# Altium schematic symbol library SEMATIK_LIB.SchLib: 632 symbols (part 9 of 21)
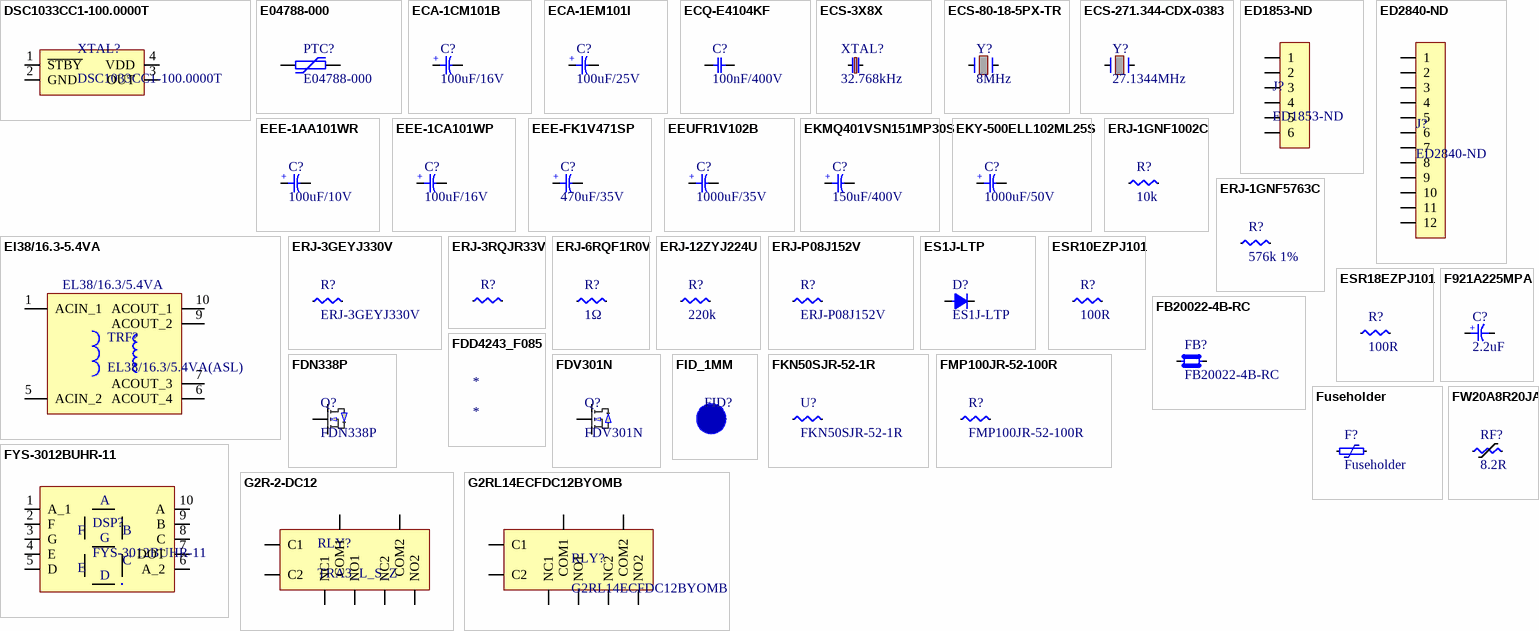
[diagram p24: symbols DSC1033CC1-100.0000T to G2RL14ECFDC12BYOMB]

## ERJ-1GNF5763C
designator R?, comment 576k 1%
RES SMD 576K OHM 1% 1/20W 0201; Manufacturer: Panasonic; Manufacturer Part Number: ERJ-1GNF5763C; Resistance: 576kR; Power Rating: 50mW; Voltage Rating: 25V; Temperature Coefficient: 200ppm/°C; Supplier 1: Digi-Key; Stock 1: 42170; Pricing 1: 1 = 0,10000, 10 = 0,05100, 100 = 0,02080, 1000 = 0,00933, 2500 = 0,00810, 5000 = 0,00669 (USD); RoHS: Yes; Mount: Surface Mount; Case/Package: 0201; Case Code (Metric): 0603; Case Code (Imperial): 0201; Contact Plating: Tin,Matte; Min Operating Temperature: -55°C; Max Operating Temperature: 125°C; Package Quantity: 15000; Tolerance: 1%; Packaging: Tape and Reel; Composition: Thick Film; Number of Terminations: 2; Termination: SMD/SMT; Max Power Dissipation: 50mW; Length: 0.024inch; Height: 0.01inch; Width: 0.012inch; Radiation Hardening: No; ComponentLink1URL: http://www.onlinecomponents.com/datasheet/erj-1gnf5763c.aspx?p=44466748&src-supplier=Onlinecomponents.com; ComponentLink1Description: http://www.onlinecomponents.com/datasheet/erj-1gnf5763c.aspx?p=44466748&src-supplier=Onlinecomponents.com; ComponentLink2URL: http://www.mouser.com/ds/2/315/AOA0000CE2-37512.pdf?src-supplier=Mouser; ComponentLink2Description: http://www.mouser.com/ds/2/315/AOA0000CE2-37512.pdf?src-supplier=Mouser; ComponentLink3URL: https://industrial.panasonic.com/cdbs/www-data/pdf/RDM0000/DMM0000COL11.pdf?src-supplier=Digi-Key; ComponentLink3Description: https://industrial.panasonic.com/cdbs/www-data/pdf/RDM0000/DMM0000COL11.pdf?src-supplier=Digi-Key; ComponentLink4URL: http://industrial.panasonic.com/www-cgi/jvcr13pz.cgi?E+PZ+3+AOA0002+ERJ1GNF5763C+7+WW?src-supplier=Digi-Key; ComponentLink4Description: http://industrial.panasonic.com/www-cgi/jvcr13pz.cgi?E+PZ+3+AOA0002+ERJ1GNF5763C+7+WW?src-supplier=Digi-Key; Supplier Part Number 1: P123087CT-ND
footprint R_0201_NOSILK
pins: 1, 2

## ERJ-3GEYJ330V
designator R?
RES SMD 33 OHM 5% 1/10W 0603; Manufacturer: Panasonic Electronic Components; Power (Watts): 0.1W, 1/10W; Temperature Coefficient: ±200ppm/°C; Resistance: 100R; Max Power Dissipation: 333mW; Max Current Rating: 40A; Hold Current: 300mA; Trip Current: 600mA; Time to Trip: 0.1s; Supplier 1: Digi-Key; Manufacturer Part Number: ERJ-3GEYJ330V; RoHS: RoHS Compliant; Category: Resistors; Stock 1: 1731668; Pricing 1: 1=0.1, 10=0.044, 100=0.0182, 1000=0.00849, 2500=0.00744 (USD); Packaging: Cut Tape (CT); Part Status: Active; Tolerance: ±5%; Composition: Thick Film; Features: Automotive AEC-Q200; Operating Temperature: -55°C ~ 155°C; Package / Case: 0603 (1608 Metric); Supplier Device Package: 0603; Size / Dimension: 0.063" L x 0.031" W (1.60mm x 0.80mm); Height - Seated (Max): 0.022" (0.55mm); Failure Rate: -; ComponentLink1URL: http://industrial.panasonic.com/www-cgi/jvcr13pz.cgi?E+PZ+3+AOA0001+ERJ3GEYJ330V+7+WW; ComponentLink1Description: http://industrial.panasonic.com/www-cgi/jvcr13pz.cgi?E+PZ+3+AOA0001+ERJ3GEYJ330V+7+WW; Supplier Part Number 1: P33GCT-ND; Supplier 2: Digi-Key; Stock 2: 23625; Pricing 2: 1=0.17, 10=0.14, 100=0.0546, 1000=0.02287, 2500=0.02096 (USD); Case/Package: 1206; Min Operating Temperature: -55°C; Max Operating Temperature: 155°C; Package Quantity: 5000; Number of Terminations: 2; Length: 0.126inch; Height: 0.026inch; Width: 0.063inch; ComponentLink2URL: http://www.rohm.com/web/global/datasheet/ESR01MZPF/esr-e?src-supplier=Digi-Key; ComponentLink2Description: http://www.rohm.com/web/global/datasheet/ESR01MZPF/esr-e?src-supplier=Digi-Key; Supplier 3: Digi-Key; Stock 3: 56444; Pricing 3: 1=0.14, 5=0.134, 10=0.129, 50=0.1148, 100=0.1069, 250=0.09504, 500=0.0792, 1000=0.07524 (USD); Case Code (Metric): 4532; Case Code (Imperial): 1812; Lead Free: Lead Free; ComponentLink3URL: https://www.belfuse.com/resources/CircuitProtection/datasheets/0ZCG%20Nov2016.pdf?src-supplier=Digi-Key; ComponentLink3Description: https://www.belfuse.com/resources/CircuitProtection/datasheets/0ZCG%20Nov2016.pdf?src-supplier=Digi-Key; Supplier Part Number 3: 507-1758-1-ND
footprint R_0603
pins: 1, 2

## ERJ-3RQJR33V
designator R?, comment 0R33  (value not drawn)
RES SMD 0.33 OHM 5% 1/10W 0603; Manufacturer: Panasonic; Manufacturer Part Number: ERJ-3RQJR33V; Resistance: 330mR; Power Rating: 100mW; Temperature Coefficient: 300ppm/°C; Supplier 1: Mouser; Stock 1: 49637; Pricing 1: 1=0.27, 10=0.103, 50=0.103, 100=0.058, 1000=0.029, 10000=0.017 (USD); Mount: Surface Mount; Case/Package: 0603; Case Code (Metric): 1608; Case Code (Imperial): 0603; Contact Plating: Tin; Min Operating Temperature: -55°C; Max Operating Temperature: 125°C; Tolerance: 5%; Packaging: Tape and Reel; Package Quantity: 1; Composition: Thick Film; Number of Terminations: 2; Termination: SMD/SMT; Max Power Dissipation: 100mW; Features: Automotive AEC-Q200; Military Standard: Not; Length: 1.6mm; Height: 0.022inch; Width: 0.031inch; Depth: 0.8mm; Radiation Hardening: No; Lead Free: Lead Free; ComponentLink1URL: http://industrial.panasonic.com/www-data/pdf/AOA0000/AOA0000CE3.pdf?src-supplier=Avnet; ComponentLink1Description: http://industrial.panasonic.com/www-data/pdf/AOA0000/AOA0000CE3.pdf?src-supplier=Avnet; ComponentLink2URL: http://industrial.panasonic.com/www-data/pdf/AOA0000/AOA0000CE3.pdf?src-supplier=Avnet+Europe; ComponentLink2Description: http://industrial.panasonic.com/www-data/pdf/AOA0000/AOA0000CE3.pdf?src-supplier=Avnet+Europe; ComponentLink3URL: http://www.mouser.com/ds/2/315/AOA0000CE3-72189.pdf?src-supplier=Mouser; ComponentLink3Description: http://www.mouser.com/ds/2/315/AOA0000CE3-72189.pdf?src-supplier=Mouser; Supplier Part Number 1: 667-ERJ-3RQJR33V
footprint R_0603
pins: 1, 2

## ERJ-6RQF1R0V
designator R?, comment 1Ω
RES SMD 1 OHM 1% 1/8W 0805; Manufacturer: Panasonic; Manufacturer Part Number: ERJ-6RQF1R0V; Resistance: 1R; Power Rating: 125mW; Temperature Coefficient: 200ppm/°C; Supplier 1: Digi-Key; RoHS: Yes; Category: Chip SMD Resistors; Stock 1: 100604; Pricing 1: 1=0,35000, 10=0,29900, 25=0,21760, 50=0,15780, 100=0,11690, 250=0,08976, 500=0,07070, 1000=0,04895 (USD); Mount: Surface Mount; Case/Package: 0805; Number of Pins: 2; Case Code (Imperial): 0805; Case Code (Metric): 2012; Contact Plating: Tin; Size Code: 0805; Min Operating Temperature: -55°C; Max Operating Temperature: 125°C; Packaging: Tape and Reel; Package Quantity: 5000; Series: ERJ; Tolerance: 1%; Termination: SMD/SMT; Resistor Type: Thick Film; Number of Terminations: 2; Max Power Dissipation: 125mW; Technology: THICK FILM; Resistance Tolerance: 1%; Construction: Rectangular; Length: 2mm; Width: 1.2mm; Height: 0.6mm; Depth: 1.25mm; Radiation Hardening: No; Lead Free: Lead Free; RoHS Compliant: Yes; REACH SVHC: No SVHC; Military Standard: Not; ComponentLink1URL: https://datasheet.ciiva.com/36525/1381829-36525978.pdf?src-supplier=Jameco; ComponentLink1Description: https://datasheet.ciiva.com/36525/1381829-36525978.pdf?src-supplier=Jameco; ComponentLink2URL: https://datasheet.ciiva.com/11818/0900766b80eefa12-11818468.pdf?src-supplier=RSComponents; ComponentLink2Description: https://datasheet.ciiva.com/11818/0900766b80eefa12-11818468.pdf?src-supplier=RSComponents; ComponentLink3URL: https://datasheet.ciiva.com/46446/391509-46446341.pdf?src-supplier=Element14; ComponentLink3Description: https://datasheet.ciiva.com/46446/391509-46446341.pdf?src-supplier=Element14; ComponentLink4URL: https://datasheet.ciiva.com/28691/391509-28691990.pdf?src-supplier=Element14; ComponentLink4Description: https://datasheet.ciiva.com/28691/391509-28691990.pdf?src-supplier=Element14; ComponentLink5URL: https://datasheet.ciiva.com/16783/70068852-16783991.pdf?src-supplier=Allied+Electronics; ComponentLink5Description: https://datasheet.ciiva.com/16783/70068852-16783991.pdf?src-supplier=Allied+Electronics; ComponentLink6URL: https://datasheet.ciiva.com/9198/aoa0000ce3-9198856.pdf?src-supplier=Avnet; ComponentLink6Description: https://datasheet.ciiva.com/9198/aoa0000ce3-9198856.pdf?src-supplier=Avnet; ComponentLink7URL: https://datasheet.ciiva.com/16507/aoa0000ce3-16507437.pdf?src-supplier=Future+Electronics; ComponentLink7Description: https://datasheet.ciiva.com/16507/aoa0000ce3-16507437.pdf?src-supplier=Future+Electronics; Supplier Part Number 1: P1.0DCT-ND
footprint R_0805
pins: 1, 2

## ERJ-12ZYJ224U
designator R?, comment 220k
RES SMD 220K OHM %5 3/4W 2010 Thick Film; Manufacturer: Panasonic; Manufacturer Part Number: ERJ-12ZYJ224U; Resistance: 220kR; Power Rating: 750mW; Tolerance: 5%; Voltage Rating: 200V; Temperature Coefficient: 200ppm/°C; Supplier 1: Digi-Key; Stock 1: 26234; Pricing 1: 1=0.3, 10=0.252, 100=0.0983, 1000=0.04117, 2500=0.03774 (USD); Mount: Surface Mount; Case/Package: 2010; Case Code (Metric): 5025; Case Code (Imperial): 2010; Contact Plating: Tin; Min Operating Temperature: -55°C; Max Operating Temperature: 155°C; Packaging: Tape and Reel; Package Quantity: 1; Composition: Thick Film; Number of Terminations: 2; Termination: SMD/SMT; Military Standard: Not; Max Power Dissipation: 750mW; Voltage Rating (DC): 200V; Features: Automotive AEC-Q200; Length: 0.197inch; Height: 0.028inch; Width: 0.098inch; Depth: 2.5mm; REACH SVHC: No SVHC; Lead Free: Lead Free; ComponentLink1URL: http://www.farnell.com/datasheets/1678796.pdf?src-supplier=Element14; ComponentLink1Description: http://www.farnell.com/datasheets/1678796.pdf?src-supplier=Element14; ComponentLink2URL: http://industrial.panasonic.com/www-data/pdf/AOA0000/AOA0000CE1.pdf?src-supplier=Avnet; ComponentLink2Description: http://industrial.panasonic.com/www-data/pdf/AOA0000/AOA0000CE1.pdf?src-supplier=Avnet; ComponentLink3URL: http://www.mouser.com/ds/2/315/AOA0000CE1-37422.pdf?src-supplier=Mouser; ComponentLink3Description: http://www.mouser.com/ds/2/315/AOA0000CE1-37422.pdf?src-supplier=Mouser; Supplier Part Number 1: P220KWDKR-ND; RoHS: No
footprint R_2010
pins: 1, 2

## ERJ-P08J152V
designator R?
RES SMD 1.5K Ohm 5% 2/3W 1206; Manufacturer: Panasonic; Resistance: 1.5kR; Temperature Coefficient: 200ppm/°C; Power Rating: 660mW; Voltage Rating: 500V; Max Power Dissipation: 667mW; Voltage Rating (DC): 200V; Supplier 1: Digi-Key; Manufacturer Part Number: ERJ-P08J152V; Stock 1: 20000; Pricing 1: 1=0.17, 10=0.142, 100=0.0556, 1000=0.02327, 2500=0.02133 (USD); Mount: Surface Mount; Case/Package: 1206; Contact Plating: Tin; Case Code (Metric): 3216; Case Code (Imperial): 1206; Min Operating Temperature: -55°C; Max Operating Temperature: 155°C; Tolerance: 5%; Composition: Thick Film; Packaging: Tape and Reel; Package Quantity: 1; Number of Terminations: 2; Features: Automotive AEC-Q200; Length: 3.2mm; Height: 0.028inch; Width: 0.063inch; Radiation Hardening: No; Lead Free: Contains Lead; ComponentLink1URL: http://industrial.panasonic.com/www-data/pdf/AOA0000/AOA0000CE4.pdf?src-supplier=Avnet+Europe; ComponentLink1Description: http://industrial.panasonic.com/www-data/pdf/AOA0000/AOA0000CE4.pdf?src-supplier=Avnet+Europe; ComponentLink2URL: http://industrial.panasonic.com/www-data/pdf/AOA0000/AOA0000CE4.pdf?src-supplier=Avnet; ComponentLink2Description: http://industrial.panasonic.com/www-data/pdf/AOA0000/AOA0000CE4.pdf?src-supplier=Avnet; ComponentLink3URL: http://www.mouser.com/ds/2/315/AOA0000CE4-64075.pdf?src-supplier=Mouser; ComponentLink3Description: http://www.mouser.com/ds/2/315/AOA0000CE4-64075.pdf?src-supplier=Mouser; Supplier Part Number 1: P1.5KALDKR-ND
footprint R_1206
pins: 1, 2

## ES1J-LTP
designator D?
DIODE GEN PURP 600V 1A DO214AC; Manufacturer: MCC; Forward Voltage: 1.7V; Max Surge Current: 30A; Reverse Recovery Time: 35ns; Element Configuration: Single; Max Reverse Current: 80uA; Supplier 1: Digi-Key; Manufacturer Part Number: ES1J-LTP; RoHS: Yes; Category: Rectifier Diodes; Stock 1: 109029; Pricing 1: 1=0,45000, 10=0,33400, 100=0,18940, 500=0,12540, 1000=0,09614, 2000=0,08360 (USD); Mount: Surface Mount; Case/Package: SMA; Number of Pins: 2; Weight: 0.001199oz; Min Operating Temperature: -65°C; Max Operating Temperature: 175°C; Packaging: Tape and Reel; Package Quantity: 1; Reverse Voltage (DC): 600V; Average Rectified Current: 1A; Peak Non-Repetitive Surge Current: 30A; Forward Current: 1A; Recovery Time: 35ns; Max Reverse Voltage (DC): 600V; Series: -; Radiation Hardening: No; Lead Free: Lead Free; RoHS Compliant: Yes; ComponentLink1URL: https://datasheet.ciiva.com/917/es1a-les1j-ldo-214ac-917284.pdf?src-supplier=Digi-Key; ComponentLink1Description: https://datasheet.ciiva.com/917/es1a-les1j-ldo-214ac-917284.pdf?src-supplier=Digi-Key; ComponentLink2URL: https://datasheet.ciiva.com/917/es1a-les1j-ldo-214ac-917285.pdf?src-supplier=Digi-Key; ComponentLink2Description: https://datasheet.ciiva.com/917/es1a-les1j-ldo-214ac-917285.pdf?src-supplier=Digi-Key; ComponentLink3URL: https://datasheet.ciiva.com/917/es1a-les1j-ldo-214ac-917283.pdf?src-supplier=Digi-Key; ComponentLink3Description: https://datasheet.ciiva.com/917/es1a-les1j-ldo-214ac-917283.pdf?src-supplier=Digi-Key; Supplier Part Number 1: ES1J-LTPMSCT-ND
footprint DO214AC(SMA)
pins: A Anot, K Katot

## ESR10EZPJ101
designator R?, comment 100R
RES SMD 100 OHM 5% 0.4W 0805; Manufacturer: Rohm Semiconductor; Manufacturer Part Number: ESR10EZPJ101; Power (Watts): 0.4W, 2/5W; Temperature Coefficient: ±200ppm/°C; Supplier 1: Digi-Key; RoHS: RoHS Compliant; Category: Resistors; Stock 1: 235580; Pricing 1: 1=0.1, 10=0.087, 100=0.0333, 1000=0.01464, 2500=0.01264 (USD); Packaging: Cut Tape (CT); Part Status: Active; Tolerance: ±5%; Composition: Thick Film; Features: Automotive AEC-Q200, Pulse Withstanding; Operating Temperature: -55°C ~ 155°C; Package / Case: 0805 (2012 Metric); Supplier Device Package: 0805; Size / Dimension: 0.079" L x 0.049" W (2.00mm x 1.25mm); Height - Seated (Max): 0.026" (0.65mm); Failure Rate: -; ComponentLink1URL: https://www.rohm.com/datasheet/ESR01MZPF/esr-e; ComponentLink1Description: https://www.rohm.com/datasheet/ESR01MZPF/esr-e; Supplier Part Number 1: RHM100KCT-ND
footprint R_0805
pins: 1, 2

## ESR18EZPJ101
designator R?, comment 100R
RES SMD 100 OHM 5% 1/3W 1206; Manufacturer: Rohm; Manufacturer Part Number: ESR18EZPJ101; Temperature Coefficient: 200ppm/°C; Max Power Dissipation: 333mW; Supplier 1: Digi-Key; Stock 1: 23625; Pricing 1: 1=0.17, 10=0.14, 100=0.0546, 1000=0.02287, 2500=0.02096 (USD); Case/Package: 1206; Min Operating Temperature: -55°C; Max Operating Temperature: 155°C; Package Quantity: 5000; Resistance: 100R; Tolerance: 5%; Packaging: Tape and Reel; Composition: Thick Film; Number of Terminations: 2; Features: Automotive AEC-Q200; Length: 0.126inch; Height: 0.026inch; Width: 0.063inch; ComponentLink1URL: http://www.rohm.com/web/global/datasheet/ESR01MZPF/esr-e?src-supplier=Digi-Key; ComponentLink1Description: http://www.rohm.com/web/global/datasheet/ESR01MZPF/esr-e?src-supplier=Digi-Key; Supplier Part Number 1: RHM100ICT-ND
footprint R_1206
pins: 1, 2

## F921A225MPA
designator C?, comment 2.2uF
CAP TANT uF 2.2 10V 20% 0805; Manufacturer: AVX Corporation; Manufacturer Part Number: F921A225MPA; Manufacturer Size Code: P; Type: Molded; ESR (Equivalent Series Resistance): 12 Ohm; Notification: Current market demand for these product types have resulted in fluctuating and extending lead times. Lead times may differ.; Supplier 1: Digi-Key; RoHS: RoHS Compliant; Category: Capacitors; Stock 1: 33178; Pricing 1: 1=0.39, 10=0.274, 100=0.1641, 500=0.12308, 1000=0.10394 (USD); Packaging: Cut Tape (CT); Part Status: Active; Tolerance: ±20%; Operating Temperature: -55°C ~ 125°C; Lifetime @ Temp.: -; Mounting Type: Surface Mount; Package / Case: 0805 (2012 Metric); Size / Dimension: 0.079" L x 0.049" W (2.00mm x 1.25mm); Height - Seated (Max): 0.039" (1.00mm); Lead Spacing: -; Features: General Purpose; Failure Rate: -; ComponentLink1URL: http://datasheets.avx.com/f92.pdf; ComponentLink1Description: http://datasheets.avx.com/f92.pdf; Supplier Part Number 1: 478-8123-1-ND
footprint Cap_tantalum_0805
pins: 1, 2
text: +

## FB20022-4B-RC
designator FB?
Ferrite Beads Wide Band Choke 900Ohm 25% 100MHz; Manufacturer 1: Bourns JW Miller; Impedance: 900R; Max Current Rating: 5A; Number of Lines: 1; Lead/Base Style: Axial; Outside Diameter: 5.99mm; Inside Diameter: 610um; Supplier 1: Digi-Key; Manufacturer Part Number 1: FB20022-4B-RC; Description 1: Ferrite Beads Wide Band Choke 900Ohm 25% 100MHz; Stock 1: 23478; Pricing 1: 1=0.65, 10=0.537, 25=0.4624, 50=0.4162, 100=0.37, 250=0.333, 500=0.30526, 1000=0.259, 5000=0.2405 (USD); Mount: Through Hole; Case/Package: Radial; Number of Pins: 2; Package Quantity: 300; Tolerance: 25%; Packaging: Bulk; DC Resistance (DCR): 900R; Termination: Axial; Test Frequency: 100MHz; Diameter: 5.99mm; Length: 0.55inch; Height: 0.394inch; REACH SVHC: No SVHC; ComponentLink1URL: http://www.bourns.com/data/global/pdfs/fb2000_series.pdf?src-supplier=Avnet+Europe; ComponentLink1Description: http://www.bourns.com/data/global/pdfs/fb2000_series.pdf?src-supplier=Avnet+Europe; ComponentLink2URL: http://www.bourns.com/data/global/pdfs/fb2000_series.pdf?src-supplier=Avnet; ComponentLink2Description: http://www.bourns.com/data/global/pdfs/fb2000_series.pdf?src-supplier=Avnet; Supplier Part Number 1: FB20022-4B-RC-ND
footprint FERRITE_FB20022-4B-RC
pins: 1, 2

## FDD4243_F085
designator *
Trans MOSFET P-CH 40V 14A 3-Pin(2+Tab) DPAK T/R

## FDN338P
designator Q?
MOSFET P-CH 20V 1.6A 3-Pin SuperSOT T/R; Manufacturer: ON Semiconductor / Fairchild; Rise Time: 11ns; Rds On Max: 115mR; Input Capacitance: 451pF; Nominal Vgs: -800mV; Power Dissipation: 500mW; Turn-Off Delay Time: 16ns; Max Power Dissipation: 460mW; Number of Elements: 1; Turn-On Delay Time: 10ns; Element Configuration: Single; Drain to Source Breakdown Voltage: -20V; Gate to Source Voltage (Vgs): 8V; Current Rating: -1.6A; Supplier 1: Digi-Key; Manufacturer Part Number: FDN338P; Stock 1: 93000; Pricing 1: 3000 = 0,10651, 6000 = 0,10185, 15000 = 0,09021, 30000 = 0,08905, 75000 = 0,07566, 150000 = 0,07275 (USD); RoHS: Yes; Mount: Surface Mount; Case/Package: TO-236-3; Number of Pins: 3; Weight: 0.03g; Contact Plating: Tin,Matte; Min Operating Temperature: -55°C; Max Operating Temperature: 150°C; Packaging: Tape and Reel; Package Quantity: 3000; Continuous Drain Current (ID): 1.6A; Fall Time: 11ns; Drain to Source Resistance: 115mR; Drain to Source Voltage (Vdss): 20V; Threshold Voltage: -800mV; Voltage Rating (DC): -20V; On-State Resistance: 115mR; Radiation Hardening: No; REACH SVHC: No SVHC; Lead Free: Lead Free; ComponentLink1URL: https://datasheet.ciiva.com/4441/fdn338p-94284-4441936.pdf?src-supplier=Mouser; ComponentLink1Description: https://datasheet.ciiva.com/4441/fdn338p-94284-4441936.pdf?src-supplier=Mouser; ComponentLink2URL: https://datasheet.ciiva.com/17017/fdn338p-17017920.pdf?src-supplier=Future+Electronics; ComponentLink2Description: https://datasheet.ciiva.com/17017/fdn338p-17017920.pdf?src-supplier=Future+Electronics; ComponentLink3URL: https://datasheet.ciiva.com/15137/getdatasheetpartid-93930-15137779.pdf?src-supplier=Verical; ComponentLink3Description: https://datasheet.ciiva.com/15137/getdatasheetpartid-93930-15137779.pdf?src-supplier=Verical; ComponentLink4URL: https://datasheet.ciiva.com/22655/1802191-22655335.pdf?src-supplier=Element14; ComponentLink4Description: https://datasheet.ciiva.com/22655/1802191-22655335.pdf?src-supplier=Element14; ComponentLink5URL: https://datasheet.ciiva.com/14092/fdn338p-eng-tds-14092053.pdf?src-supplier=Distrelec; ComponentLink5Description: https://datasheet.ciiva.com/14092/fdn338p-eng-tds-14092053.pdf?src-supplier=Distrelec; ComponentLink6URL: https://datasheet.ciiva.com/7968/fdn338p-7968134.pdf?src-supplier=Element14; ComponentLink6Description: https://datasheet.ciiva.com/7968/fdn338p-7968134.pdf?src-supplier=Element14; ComponentLink7URL: https://datasheet.ciiva.com/8115/fdn338p-8115079.pdf?src-supplier=Avnet; ComponentLink7Description: https://datasheet.ciiva.com/8115/fdn338p-8115079.pdf?src-supplier=Avnet; ComponentLink8URL: https://datasheet.ciiva.com/26142/fdn338p-26142811.pdf?src-supplier=Avnet+Europe; ComponentLink8Description: https://datasheet.ciiva.com/26142/fdn338p-26142811.pdf?src-supplier=Avnet+Europe; ComponentLink9URL: https://datasheet.ciiva.com/6037/fdn338p-6037724.pdf?src-supplier=Farnell; ComponentLink9Description: https://datasheet.ciiva.com/6037/fdn338p-6037724.pdf?src-supplier=Farnell; Supplier Part Number 1: FDN338PTR-ND
footprint superSOT-3
pins: 1 D, 2 G, 3 S

## FDV301N
designator Q?
MOSFET N-CH 25V 0.5A 3-Pin SOT-23; Manufacturer 1: ON Semiconductor / Fairchild; Rise Time: 6ns; Nominal Vgs: 850mV; Rds On Max: 4R; Input Capacitance: 9.5pF; Number of Elements: 1; Max Power Dissipation: 350mW; Continuous Drain Current (ID): 220mA; Gate to Source Voltage (Vgs): 8V; Drain to Source Resistance: 5R; Turn-Off Delay Time: 3.5ns; Turn-On Delay Time: 3.2ns; Element Configuration: Single; Voltage: 50V; Supplier 1: Digi-Key; Manufacturer Part Number 1: FDV301N; Stock 1: 1521000; Pricing 1: 3000=0,04171, 6000=0,03608, 15000=0,02992, 30000=0,02939, 75000=0,02640, 150000=0,02288 (USD); RoHS: Yes; Mount: Surface Mount; Case/Package: SOT-23; Number of Pins: 3; Contact Plating: Tin,Matte; Min Operating Temperature: -55°C; Max Operating Temperature: 150°C; Packaging: Tape and Reel; Package Quantity: 1; Dual Supply Voltage: 25V; Drain to Source Breakdown Voltage: 25V; Fall Time: 6ns; Power Dissipation: 350mW; Drain to Source Voltage (Vdss): 25V; Termination: SMD/SMT; Voltage Rating (DC): 25V; Current Rating: 220mA; On-State Resistance: 4R; Length: 2.92mm; Height: 0.93mm; Width: 3.05mm; Radiation Hardening: No; REACH SVHC: No SVHC; Lead Free: Lead Free; ComponentLink1URL: https://datasheet.ciiva.com/4439/fdv301n-52768-4439154.pdf?src-supplier=Mouser; ComponentLink1Description: https://datasheet.ciiva.com/4439/fdv301n-52768-4439154.pdf?src-supplier=Mouser; ComponentLink2URL: https://datasheet.ciiva.com/931/fdv301n-931766.pdf?src-supplier=Digi-Key; ComponentLink2Description: https://datasheet.ciiva.com/931/fdv301n-931766.pdf?src-supplier=Digi-Key; ComponentLink3URL: https://datasheet.ciiva.com/931/fdv301n-931767.pdf?src-supplier=Digi-Key; ComponentLink3Description: https://datasheet.ciiva.com/931/fdv301n-931767.pdf?src-supplier=Digi-Key; ComponentLink4URL: https://datasheet.ciiva.com/22681/1719905-22681895.pdf?src-supplier=Element14; ComponentLink4Description: https://datasheet.ciiva.com/22681/1719905-22681895.pdf?src-supplier=Element14; ComponentLink5URL: https://datasheet.ciiva.com/22681/1719905-22681896.pdf?src-supplier=Element14; ComponentLink5Description: https://datasheet.ciiva.com/22681/1719905-22681896.pdf?src-supplier=Element14; Supplier Part Number 1: FDV301NTR-ND
footprint SOT-23
pins: 1 D, 2 G, 3 S

## FID_1MM
designator FID?  (value not drawn)  (no BOM)
Fiducial 40mil Diameter, 120mil Mask
footprint FID40x120

## FKN50SJR-52-1R
designator U?
RES 1 OHM 1/2W 5% AXIAL; Manufacturer 1: Yageo; Resistance: 1R; Max Power Dissipation: 500mW; Supplier 1: Digi-Key; Manufacturer Part Number 1: FKN50SJR-52-1R; Description 1: RES 1 OHM 1/2W 5% AXIAL; Stock 1: 7944; Pricing 1: 1=0.38, 10=0.319, 25=0.232, 50=0.168, 100=0.1246, 250=0.09564, 500=0.07534, 1000=0.05216 (USD); Case/Package: Axial; Min Operating Temperature: -40°C; Max Operating Temperature: 155°C; Package Quantity: 1; Tolerance: 5%; Packaging: Tape and Reel; Composition: Wirewound; Number of Terminations: 2; Length: 0.248inch; ComponentLink1URL: http://www.yageo.com/documents/recent/Yageo%20LR_FKN_2013.pdf?src-supplier=Digi-Key; ComponentLink1Description: http://www.yageo.com/documents/recent/Yageo%20LR_FKN_2013.pdf?src-supplier=Digi-Key; Supplier Part Number 1: 1.0DNCT-ND
footprint R_DIP_460mil
pins: 1, 2

## FMP100JR-52-100R
designator R?
RES Metal Film 100 OHM 1W 5% AXIAL; Manufacturer 1: Yageo; Description 1: RES 100 OHM 1W 5% AXIAL; Resistance: 100R; Supplier 1: Digi-Key; Manufacturer Part Number 1: FMP100JR-52-100R; Stock 1: 92005; Pricing 1: 1=0.23, 10=0.198, 25=0.144, 50=0.1044, 100=0.0774, 250=0.0594, 500=0.0468, 1000=0.03239 (USD); Case/Package: Axial; Min Operating Temperature: -55°C; Max Operating Temperature: 155°C; Package Quantity: 1; Tolerance: 5%; Packaging: Tape and Reel; Composition: Metal Film; Number of Terminations: 2; Max Power Dissipation: 1W; Length: 0.248inch; Lead Free: Lead Free; ComponentLink1URL: http://www.yageo.com/documents/recent/Yageo%20LR_FMP_2013.pdf?src-supplier=Digi-Key; ComponentLink1Description: http://www.yageo.com/documents/recent/Yageo%20LR_FMP_2013.pdf?src-supplier=Digi-Key; Supplier Part Number 1: 100WCT-ND
footprint RES_DIP_2.40x6.30
footprint RES_DIP_2.40x6.30+2512
pins: 1, 2

## Fuseholder
designator F?
FUSE HLDR CARTRIDGE 250V 5A PCB; Manufacturer: Keystone Electronics; Manufacturer Part Number: 4527; Fuseholder Type: Holder; For Use With/Related Products: 1/4" Dia; Fuse Size: 5mm x 20mm; Supplier 1: Digi-Key; RoHS: RoHS Compliant; Category: Circuit Protection; Stock 1: 22079; Pricing 1: 1=0.73, 10=0.55, 50=0.44, 100=0.4217, 250=0.38504, 1000=0.30785, 2500=0.27505, 5000=0.26586 (USD); Part Status: Active; Fuse Type: Cartridge; Voltage: 250V; Mounting Type: PCB; Orientation: Horizontal; Termination Style: PC Pin; Contact Material: Brass; Contact Finish: Tin; ComponentLink1URL: http://www.keyelco.com/product-pdf.cfm?p=324; ComponentLink1Description: http://www.keyelco.com/product-pdf.cfm?p=324; Supplier Part Number 1: 36-4527-ND
footprint SIGORTAYUVASI
pins: 1, 2

## FW20A8R20JA
designator RF?, comment 8.2R
RES FUSIBLE 8.2 OHM 2W 5% AXIAL; Manufacturer: Bourns; Manufacturer Part Number: FW20A8R20JA; Temperature Coefficient: 200ppm/°C; Supplier 1: Digi-Key; Stock 1: 374; Pricing 1: 1 = 0,64000, 10 = 0,46000, 25 = 0,35880, 50 = 0,30360, 100 = 0,23920, 250 = 0,20240, 500 = 0,16560 (USD); RoHS: Yes; Case/Package: Axial; Min Operating Temperature: -55°C; Max Operating Temperature: 155°C; Package Quantity: 1000; Packaging: Tape and Reel; Resistance: 8.2R; Tolerance: 5%; Power Rating: 2W; Resistor Type: Wirewound; Number of Terminations: 2; Termination: Axial; Max Power Dissipation: 2W; Length: 0.472inch; ComponentLink1URL: https://datasheet.ciiva.com/12835/fw-12835070.pdf?src-supplier=Mouser; ComponentLink1Description: https://datasheet.ciiva.com/12835/fw-12835070.pdf?src-supplier=Mouser; Supplier Part Number 1: 118-FW20A8R20JACT-ND
footprint R_DIP_(6x12)_PIN_0.65
pins: 1, 2

## FYS-3012BUHR-11
designator DSP?
LED 7SEG .30" SGL 565NM GRN CA; Manufacturer: Lumex Opto/Components Inc.; Manufacturer Part Number: LDS-C352RI; Number of Characters: 1; Digit/Alpha Size: 0.30" (7.62mm); Display Type: 7-Segment; Common Pin: Common Cathode; Voltage - Forward (Vf) (Typ): 2.2V; Current - Test: 10mA; Millicandela Rating: 2.5mcd; Power Dissipation (Max): 105mW; Supplier 1: Digi-Key; RoHS: RoHS Compliant; Category: Optoelectronics; Stock 1: 0; Pricing 1: 1=1.84, 2520=0.6825, 5000=0.65625 (USD); Packaging: Bulk; Part Status: Active; Size / Dimension: 0.500" H x 0.299" W x 0.240" D (12.70mm x 7.60mm x 6.10mm); Color: Green; Wavelength - Peak: 565nm; Package / Case: 10-DIP (0.200", 5.08mm); ComponentLink1URL: https://www.lumex.com/content/files/ProductAttachment/LDS-C352RI.pdf; ComponentLink1Description: https://www.lumex.com/content/files/ProductAttachment/LDS-C352RI.pdf; Supplier Part Number 1: LDS-C352RI-ND
footprint 7_SEGMENT_300Mil
pins: 1 A_1, 2 F, 3 G, 4 E, 5 D, 6 A_2, 7 DOT, 8 C, 9 B, 10 A

## G2R-2-DC12
designator RLY?, comment TRA3_L_S_Z
RELAY GEN PURPOSE DPDT 5A 12V; Manufacturer: Omron; Manufacturer Part Number: G2R-2-DC12; Voltage Rating (AC): 380V; Voltage Rating (DC): 125V; Power Consumption: 530mW; Coil Current: 43.6mA; Operate Time: 15ms; Release Time: 5ms; Coil Resistance: 275R; Relay Type: General Purpose; Coil Type: Non-Latching; Approvals: CE,CSA,UL,VDE; Supplier 1: Digi-Key; Stock 1: 9538; Pricing 1: 1=5, 10=4.689, 25=4.168, 50=3.9596, 100=3.7512, 300=3.3344, 500=3.126, 1000=2.9176 (USD); Mount: PCB,Through Hole; Number of Pins: 8; Weight: 17g; Contact Material: Cadmium,Silver; Min Operating Temperature: -40°C; Max Operating Temperature: 70°C; Contact Current Rating: 5A; Max Current Rating: 5A; Type: Electromechanical; Current Rating: 5A; Package Quantity: 100; Packaging: Tray; Power Rating: 530mW; Max Voltage Rating (AC): 380V; Max Voltage Rating (DC): 125V; Throw Configuration: DPDT; Termination: PC Pin; Coil Power: 530mW; Coil Voltage (DC): 12V; Length: 29mm; Height: 25.5mm; Width: 13mm; Depth: 13mm; Radiation Hardening: No; Lead Free: Lead Free; ComponentLink1URL: http://www.alliedelec.com/images/products/datasheets/bm/OMRON_ELECTRONICS_LLC/70175386.pdf?src-supplier=Allied+Electronics; ComponentLink1Description: http://www.alliedelec.com/images/products/datasheets/bm/OMRON_ELECTRONICS_LLC/70175386.pdf?src-supplier=Allied+Electronics; ComponentLink2URL: https://omronfs.omron.com/en_US/ecb/products/pdf/en-g2r.pdf?src-supplier=Digi-Key; ComponentLink2Description: https://omronfs.omron.com/en_US/ecb/products/pdf/en-g2r.pdf?src-supplier=Digi-Key; ComponentLink3URL: http://www.mouser.com/ds/2/307/en-g2r-15525.pdf?src-supplier=Mouser; ComponentLink3Description: http://www.mouser.com/ds/2/307/en-g2r-15525.pdf?src-supplier=Mouser; ComponentLink4URL: http://www.omron.com/ecb/products/pdf/en-g2r.pdf?src-supplier=Element14; ComponentLink4Description: http://www.omron.com/ecb/products/pdf/en-g2r.pdf?src-supplier=Element14; ComponentLink5URL: http://www.omron.com/ecb/products/pdf/en-g2r.pdf?src-supplier=Farnell; ComponentLink5Description: http://www.omron.com/ecb/products/pdf/en-g2r.pdf?src-supplier=Farnell; ComponentLink6URL: http://datasheet.iiic.cc/omron/G2R-2-DC12.pdf?src-supplier=IIIC; ComponentLink6Description: http://datasheet.iiic.cc/omron/G2R-2-DC12.pdf?src-supplier=IIIC; Supplier Part Number 1: Z2869-ND
footprint Relay_TRA3-l-12VDC-S-2Z
pins: C1, C2, COM1, COM2, NC1, NC2, NO1, NO2

## G2RL14ECFDC12BYOMB
designator RLY?
Relay Gen Purp SPDT 16A 12DC; Manufacturer 1: Omron; Description 1: Relay;  E-Mech;  Gen Purp;  SPDT;  Cur-Rtg 16A;  Ctrl-V 12DC;  Vol-Rtg 250/24AC/DC;  PCB Mnt; Coil Resistance: 360R; Coil Power: 400mW; Coil Current: 33.3mA; Coil Voltage (DC): 12V; Max Voltage Rating (AC): 440V; Max Voltage Rating (DC): 300V; Approvals: UL,CSA,VDE; Supplier 1: Digi-Key; Manufacturer Part Number 1: G2RL14ECFDC12BYOMB; Stock 1: 8759; Pricing 1: 1=3.96, 10=3.71, 25=3.298, 50=3.133, 100=2.968, 300=2.63823, 500=2.47336 (USD); Mount: PCB,Through Hole; Number of Pins: 8; Contact Material: Silver,Cadmium; Min Operating Temperature: -40°C; Max Operating Temperature: 85°C; Packaging: Bulk; Termination: PCB; Throw Configuration: SPDT; Max Current Rating: 16A; Current Rating: 16A; Voltage Rating (AC): 440V; Length: 29mm; Height: 15.7mm; Depth: 12.7mm; Radiation Hardening: No; ComponentLink1URL: https://www.alliedelec.com/m/d/3e40f7f562dcf873f08e7c31784d5e27.pdf?src-supplier=Allied+Electronics; ComponentLink1Description: https://www.alliedelec.com/m/d/3e40f7f562dcf873f08e7c31784d5e27.pdf?src-supplier=Allied+Electronics; ComponentLink2URL: https://www.components.omron.com/components/web/pdflib.nsf/0/8F66C9A835A195FE85257201007DD572/$file/G2RL_0911.pdf?src-supplier=Avnet; ComponentLink2Description: https://www.components.omron.com/components/web/pdflib.nsf/0/8F66C9A835A195FE85257201007DD572/$file/G2RL_0911.pdf?src-supplier=Avnet; Supplier Part Number 1: Z2841-ND
footprint Relay_TRA3-l-12VDC-S-2Z
pins: C1, C2, COM1, COM2, NC1, NC2, NO1, NO2

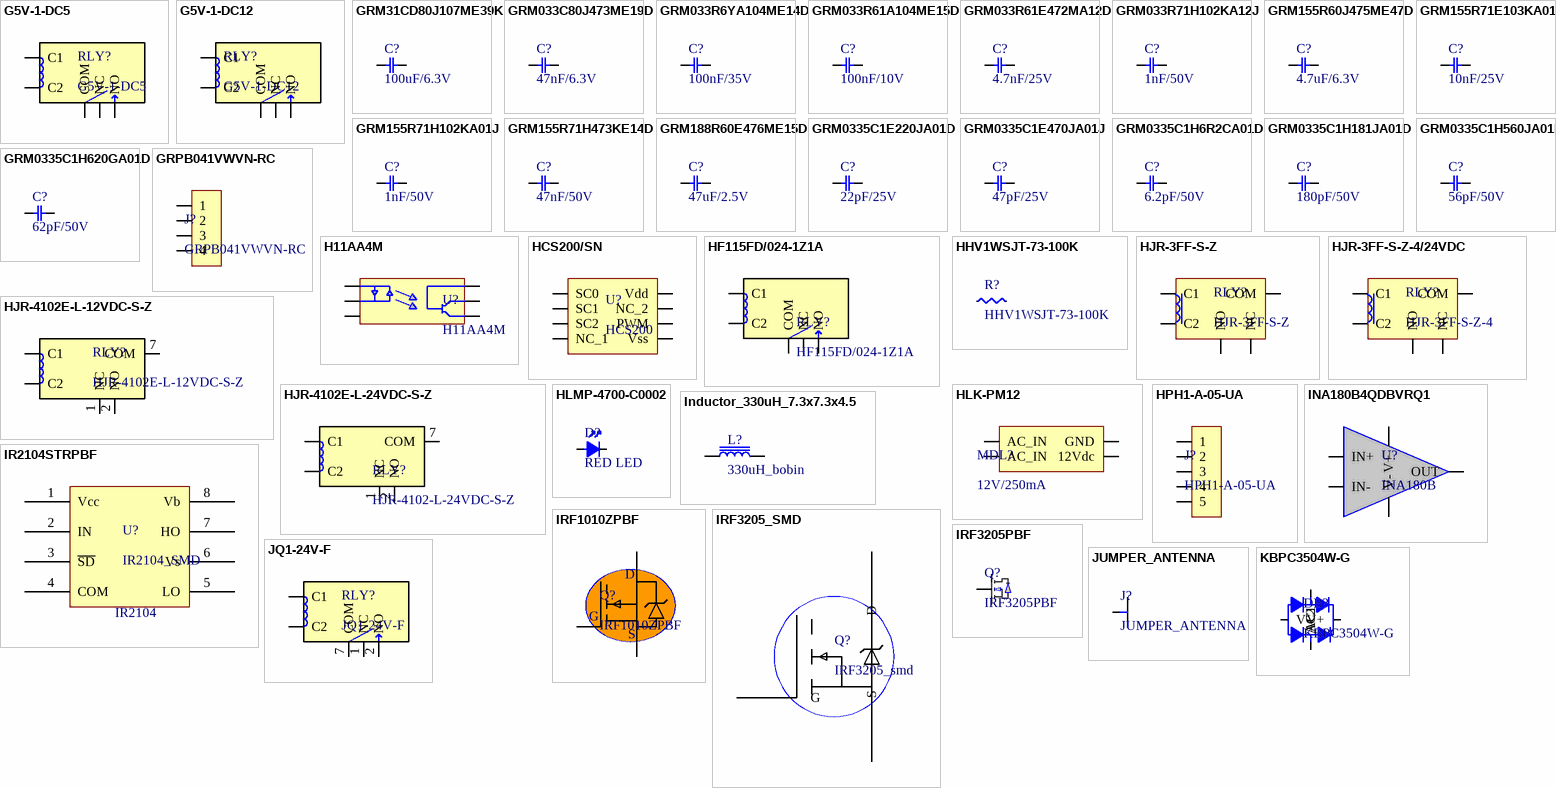
[diagram p7: symbols G5V-1-DC5 to KBPC3504W-G]

## G5V-1-DC5
designator RLY?
RELAY SIGNAL SPDT 1A 5VDC; Manufacturer 1: Omron; Description 1: OMRON ELECTRONIC COMPONENTS         G5V-1-DC5            Signal Relay, SPDT, 5 VDC, 1 A, Through Hole, Non Latching; Number of Poles: 1; Power Consumption: 150mW; Voltage Rating (AC): 125V; Voltage Rating (DC): 60V; Coil Current: 30mA; Operate Time: 5ms; Coil Resistance: 167R; Insulation Resistance: 1GR; Coil Type: Non-Latching; Relay Type: General Purpose; Coil Voltage (DC): 5V; Approvals: UL,CSA; Supplier 1: Digi-Key; Manufacturer Part Number 1: G5V-1-DC5; Stock 1: 67273; Pricing 1: 1=1.99, 10=1.867, 25=1.6596, 50=1.5764, 100=1.4935, 250=1.32752, 500=1.24456, 1000=1.16158, 5000=1.1201 (USD); Mount: Through Hole,PCB; Case/Package: DIP; Number of Pins: 6; Contact Material: Gold,Silver; Min Operating Temperature: -40°C; Max Operating Temperature: 70°C; Contact Current Rating: 1A; Type: Electromechanical; Packaging: Bulk; Package Quantity: 25; Current Rating: 1A; Max Voltage Rating (AC): 125V; Max Current Rating: 1A; Max Voltage Rating (DC): 60V; Throw Configuration: SPDT; Termination: PC Pin; Release Time: 5ms; Coil Power: 150mW; Length: 12.5mm; Height: 10mm; Width: 7.5mm; Depth: 7.5mm; Radiation Hardening: No; REACH SVHC: Unknown; Lead Free: Lead Free; ComponentLink1URL: http://www.farnell.com/datasheets/2005875.pdf?src-supplier=Element14; ComponentLink1Description: http://www.farnell.com/datasheets/2005875.pdf?src-supplier=Element14; ComponentLink2URL: https://www.verical.com/server-webapp/html/getDatasheet?partID=765626&src-supplier=Verical; ComponentLink2Description: https://www.verical.com/server-webapp/html/getDatasheet?partID=765626&src-supplier=Verical; ComponentLink3URL: http://www.jameco.com/Jameco/Products/ProdDS/187240.pdf?src-supplier=Jameco; ComponentLink3Description: http://www.jameco.com/Jameco/Products/ProdDS/187240.pdf?src-supplier=Jameco; ComponentLink4URL: https://www.alliedelec.com/m/d/1e60b26584bcbc6bc4b71250aa7aa308.pdf?src-supplier=Allied+Electronics; ComponentLink4Description: https://www.alliedelec.com/m/d/1e60b26584bcbc6bc4b71250aa7aa308.pdf?src-supplier=Allied+Electronics; ComponentLink5URL: http://www.onlinecomponents.com/productFiles/mf-OM/G5V-1.PDF?src-supplier=Onlinecomponents.com; ComponentLink5Description: http://www.onlinecomponents.com/productFiles/mf-OM/G5V-1.PDF?src-supplier=Onlinecomponents.com; ComponentLink6URL: https://omronfs.omron.com/en_US/ecb/products/pdf/en-g5v_1.pdf?src-supplier=Digi-Key; ComponentLink6Description: https://omronfs.omron.com/en_US/ecb/products/pdf/en-g5v_1.pdf?src-supplier=Digi-Key; Supplier Part Number 1: Z773-ND
footprint Relay_G5V-1
pins: C1, C2, COM1 COM, NC1 NC, NO1 NO

## G5V-1-DC12
designator RLY?
RELAY GEN PURPOSE SPDT 1A 125V; Manufacturer 1: Omron; Power Consumption: 150mW; Voltage Rating (DC): 60V; Coil Current: 12.5mA; Operate Time: 5ms; Coil Resistance: 960R; Relay Type: General Purpose; Coil Type: Non-Latching; Coil Voltage (DC): 12V; Approvals: UL,CSA; Supplier 1: Digi-Key; Manufacturer Part Number 1: G5V-1-DC12; Description 1: RELAY GEN PURPOSE SPDT 1A 125V; Stock 1: 16217; Pricing 1: 1=1.99, 10=1.867, 25=1.6596, 50=1.5764, 100=1.4935, 250=1.32752, 500=1.24456, 1000=1.16158, 5000=1.1201 (USD); Mount: Through Hole,PCB; Case/Package: DIP; Number of Pins: 6; Weight: 2g; Contact Material: Gold,Silver; Min Operating Temperature: -40°C; Max Operating Temperature: 70°C; Package Quantity: 500; Packaging: Rail/Tube; Contact Current Rating: 1A; Type: Electromechanical; Max Current Rating: 1A; Voltage Rating (AC): 125V; Max Voltage Rating (AC): 125V; Max Voltage Rating (DC): 60V; Current Rating: 1A; Throw Configuration: SPDT; Release Time: 5ms; Termination: PC Pin; Coil Power: 150mW; Power Rating: 150mW; Length: 12.5mm; Height: 10mm; Width: 7.5mm; Depth: 7.5mm; Radiation Hardening: No; REACH SVHC: No SVHC; Lead Free: Lead Free; ComponentLink1URL: https://omronfs.omron.com/en_US/ecb/products/pdf/en-g5v_1.pdf?src-supplier=Digi-Key; ComponentLink1Description: https://omronfs.omron.com/en_US/ecb/products/pdf/en-g5v_1.pdf?src-supplier=Digi-Key; ComponentLink2URL: http://www.jameco.com/Jameco/Products/ProdDS/184461.pdf?src-supplier=Jameco; ComponentLink2Description: http://www.jameco.com/Jameco/Products/ProdDS/184461.pdf?src-supplier=Jameco; ComponentLink3URL: https://www.verical.com/server-webapp/html/getDatasheet?partID=242758&src-supplier=Verical; ComponentLink3Description: https://www.verical.com/server-webapp/html/getDatasheet?partID=242758&src-supplier=Verical; ComponentLink4URL: http://www.onlinecomponents.com/productFiles/mf-OM/G5V-1.PDF?src-supplier=Onlinecomponents.com; ComponentLink4Description: http://www.onlinecomponents.com/productFiles/mf-OM/G5V-1.PDF?src-supplier=Onlinecomponents.com; ComponentLink5URL: https://www.alliedelec.com/m/d/1e60b26584bcbc6bc4b71250aa7aa308.pdf?src-supplier=Allied+Electronics; ComponentLink5Description: https://www.alliedelec.com/m/d/1e60b26584bcbc6bc4b71250aa7aa308.pdf?src-supplier=Allied+Electronics; Supplier Part Number 1: Z774-ND
footprint Relay_G5V-1
pins: C1, C2, COM1 COM, NC1 NC, NO1 NO

## GRM31CD80J107ME39K
designator C?, comment 100uF/6.3V
CAP CER uF 100 6.3V X6T 1206; Manufacturer: Murata; Manufacturer Part Number: GRM31CD80J107ME39K; Tolerance: 20%; Capacitance: 100uF; Supplier 1: Digi-Key; Stock 1: 13899; Pricing 1: 1 = 0,76000, 10 = 0,56100, 100 = 0,38470, 500 = 0,30454, 1000 = 0,25645, 2500 = 0,24042 (USD); RoHS: No; Voltage Rating (DC): 6.3V; Dielectric: X6T; Length: 3.2mm; Width: 1.6mm; Thickness: 1.6mm; ComponentLink1URL: http://search.murata.co.jp/Ceramy/image/img/A01X/G101/ENG/GRM31CD80J107ME39-01.pdf?src-supplier=Digi-Key; ComponentLink1Description: http://search.murata.co.jp/Ceramy/image/img/A01X/G101/ENG/GRM31CD80J107ME39-01.pdf?src-supplier=Digi-Key; ComponentLink2URL: https://search.murata.co.jp/Ceramy/image/img/A01X/G101/ENG/GRM31CD80J107ME39-01.pdf?src-supplier=Digi-Key; ComponentLink2Description: https://search.murata.co.jp/Ceramy/image/img/A01X/G101/ENG/GRM31CD80J107ME39-01.pdf?src-supplier=Digi-Key; Supplier Part Number 1: 490-16313-6-ND
footprint Cap_1206
footprint Cap_1206_NOSILK
pins: 1, 2

## GRM033C80J473ME19D
designator C?, comment 47nF/6.3V
CAP CER nF 47 6.3V X6S 0201; Manufacturer: Murata; Manufacturer Part Number: GRM033C80J473ME19D; Tolerance: 20%; Capacitance: 47nF; Supplier 1: Digi-Key; Stock 1: 26874; Pricing 1: 1 = 0,10000, 10 = 0,06000, 100 = 0,02670, 500 = 0,01906, 1000 = 0,01497, 2500 = 0,01361, 5000 = 0,01252 (USD); RoHS: Yes; Mount: Surface Mount; Case/Package: 0201; Weight: 1.2E-05oz; Case Code (Imperial): 0201; Case Code (Metric): 0603; Min Operating Temperature: -55°C; Max Operating Temperature: 105°C; Packaging: Tape and Reel; Voltage Rating: 6.3V; Dielectric: X6S; Termination: SMD/SMT; Composition: Ceramic; Voltage Rating (DC): 6.3V; Package Quantity: 15000; Length: 0.024inch; Height: 0.3mm; Width: 0.3mm; Thickness: 0.013inch; ComponentLink1URL: http://www.mouser.com/ds/2/281/c02e-2905.pdf?src-supplier=Mouser; ComponentLink1Description: http://www.mouser.com/ds/2/281/c02e-2905.pdf?src-supplier=Mouser; ComponentLink2URL: https://search.murata.co.jp/Ceramy/image/img/A01X/G101/ENG/GRM033C80J473ME19-01.pdf?src-supplier=Digi-Key; ComponentLink2Description: https://search.murata.co.jp/Ceramy/image/img/A01X/G101/ENG/GRM033C80J473ME19-01.pdf?src-supplier=Digi-Key; ComponentLink3URL: http://search.murata.co.jp/Ceramy/image/img/A01X/G101/ENG/GRM033C80J473ME19-01.pdf?src-supplier=Digi-Key; ComponentLink3Description: http://search.murata.co.jp/Ceramy/image/img/A01X/G101/ENG/GRM033C80J473ME19-01.pdf?src-supplier=Digi-Key; Supplier Part Number 1: 490-16737-1-ND
footprint cap_0201
pins: 1, 2

## GRM033R6YA104ME14D
designator C?, comment 100nF/35V
CAP CER nF 100 35V X5R 0201; Manufacturer: Murata; Manufacturer Part Number: GRM033R6YA104ME14D; Tolerance: 20%; Capacitance: 100nF; Supplier 1: Digi-Key; Stock 1: 189788; Pricing 1: 1 = 0,10000, 10 = 0,05600, 50 = 0,03040, 100 = 0,02490, 500 = 0,01778, 1000 = 0,01398, 2500 = 0,01270, 5000 = 0,01169 (USD); RoHS: Yes; Mount: Surface Mount; Case/Package: 0201; Weight: 1.2E-05oz; Case Code (Metric): 0603; Case Code (Imperial): 0201; Min Operating Temperature: -55°C; Max Operating Temperature: 85°C; Dielectric: X5R; Termination: SMD/SMT; Voltage Rating (DC): 35V; Package Quantity: 15000; Packaging: Tape and Reel; Voltage Rating: 35V; Length: 0.024inch; Height: 0.3mm; Width: 0.012inch; Thickness: 0.013inch; ComponentLink1URL: http://www.mouser.com/ds/2/281/c02e-2905.pdf?src-supplier=Mouser; ComponentLink1Description: http://www.mouser.com/ds/2/281/c02e-2905.pdf?src-supplier=Mouser; ComponentLink2URL: http://search.murata.co.jp/Ceramy/image/img/A01X/G101/ENG/GRM033R6YA104ME14-01.pdf?src-supplier=Digi-Key; ComponentLink2Description: http://search.murata.co.jp/Ceramy/image/img/A01X/G101/ENG/GRM033R6YA104ME14-01.pdf?src-supplier=Digi-Key; Supplier Part Number 1: 490-10431-1-ND
footprint cap_0201
pins: 1, 2

## GRM033R61A104ME15D
designator C?, comment 100nF/10V
CAP CER nF 100 10V X5R 0201; Manufacturer: Murata; Manufacturer Part Number: GRM033R61A104ME15D; Capacitance: 100nF; Tolerance: 20%; Supplier 1: Digi-Key; Stock 1: 2490000; Pricing 1: 15000 = 0,00220, 30000 = 0,00209, 75000 = 0,00187 (USD); RoHS: Yes; Mount: Surface Mount; Case/Package: 0201; Case Code (Metric): 0603; Case Code (Imperial): 0201; Min Operating Temperature: -55°C; Max Operating Temperature: 85°C; Voltage Rating: 10V; Packaging: Tape and Reel; Package Quantity: 10; Dielectric: X5R; Voltage Rating (DC): 10V; Length: 0.024inch; Width: 0.012inch; Thickness: 0.013inch; Depth: 0.3mm; Lead Free: Lead Free; ComponentLink1URL: https://datasheet.ciiva.com/131/partnumbering-e-01-131478.pdf?src-supplier=Digi-Key; ComponentLink1Description: https://datasheet.ciiva.com/131/partnumbering-e-01-131478.pdf?src-supplier=Digi-Key; ComponentLink2URL: https://datasheet.ciiva.com/131/partnumbering-e-01-131479.pdf?src-supplier=Digi-Key; ComponentLink2Description: https://datasheet.ciiva.com/131/partnumbering-e-01-131479.pdf?src-supplier=Digi-Key; Supplier Part Number 1: 490-5405-2-ND
footprint cap_0201
pins: 1, 2

## GRM033R61E472MA12D
designator C?, comment 4.7nF/25V
CAP CER nF 4.7 25V X5R 0201; Manufacturer: Murata; Manufacturer Part Number: GRM033R61E472MA12D; Capacitance: 4.7nF; Tolerance: 20%; Supplier 1: Digi-Key; Stock 1: 66178; Pricing 1: 1 = 0,10000, 10 = 0,01500, 100 = 0,00680, 500 = 0,00488, 1000 = 0,00384, 2500 = 0,00349, 5000 = 0,00321 (USD); RoHS: Yes; Mount: Surface Mount; Case/Package: 0201; Weight: 1.2E-05oz; Case Code (Metric): 0603; Case Code (Imperial): 0201; Min Operating Temperature: -55°C; Max Operating Temperature: 85°C; Packaging: Tape and Reel; Voltage Rating: 25V; Dielectric: X5R; Termination: SMD/SMT; Voltage Rating (DC): 25V; Package Quantity: 15000; Length: 0.024inch; Height: 0.3mm; Width: 0.3mm; Thickness: 0.013inch; ComponentLink1URL: http://www.mouser.com/ds/2/281/c02e-2905.pdf?src-supplier=Mouser; ComponentLink1Description: http://www.mouser.com/ds/2/281/c02e-2905.pdf?src-supplier=Mouser; ComponentLink2URL: http://search.murata.co.jp/Ceramy/image/img/A01X/partnumbering_e_01.pdf?src-supplier=Digi-Key; ComponentLink2Description: http://search.murata.co.jp/Ceramy/image/img/A01X/partnumbering_e_01.pdf?src-supplier=Digi-Key; ComponentLink3URL: http://search.murata.co.jp/Ceramy/image/img/A01X/G101/ENG/GRM033R61E472MA12-01.pdf?src-supplier=Digi-Key; ComponentLink3Description: http://search.murata.co.jp/Ceramy/image/img/A01X/G101/ENG/GRM033R61E472MA12-01.pdf?src-supplier=Digi-Key; Supplier Part Number 1: 490-9994-6-ND
footprint cap_0201
pins: 1, 2

## GRM033R71H102KA12J
designator C?, comment 1nF/50V
CAP CER nF 1 50V X7R 0201; Manufacturer: Murata; Manufacturer Part Number: GRM033R71H102KA12J; Capacitance: 1nF; Tolerance: 10%; Supplier 1: Digi-Key; Stock 1: 68125; Pricing 1: 1 = 0,10000, 10 = 0,01900, 100 = 0,00870, 500 = 0,00620, 1000 = 0,00487, 2500 = 0,00443, 5000 = 0,00407 (USD); RoHS: Yes; Mount: Surface Mount; Case/Package: 0201; Min Operating Temperature: -55°C; Max Operating Temperature: 125°C; Voltage Rating (DC): 50V; Dielectric: X7R; Packaging: Tape and Reel; Voltage Rating: 50V; Length: 0.024inch; Width: 0.012inch; Thickness: 0.013inch; ComponentLink1URL: https://search.murata.co.jp/Ceramy/image/img/A01X/G101/ENG/GRM033R71H102KA12-01.pdf?src-supplier=Digi-Key; ComponentLink1Description: https://search.murata.co.jp/Ceramy/image/img/A01X/G101/ENG/GRM033R71H102KA12-01.pdf?src-supplier=Digi-Key; ComponentLink2URL: http://search.murata.co.jp/Ceramy/image/img/A01X/G101/ENG/GRM033R71H102KA12-01.pdf?src-supplier=Digi-Key; ComponentLink2Description: http://search.murata.co.jp/Ceramy/image/img/A01X/G101/ENG/GRM033R71H102KA12-01.pdf?src-supplier=Digi-Key; Supplier Part Number 1: 490-14573-1-ND
footprint cap_0201
pins: 1, 2

## GRM155R60J475ME47D
designator C?, comment 4.7uF/6.3V
CAP CER uF 4.7 6.3V X5R 0402; Manufacturer: Murata; Manufacturer Part Number: GRM155R60J475ME47D; Capacitance: 4.7uF; Tolerance: 20%; Supplier 1: Digi-Key; Stock 1: 22070503; Pricing 1: 1 = 0,16000, 10 = 0,11600, 100 = 0,05450, 500 = 0,03822, 1000 = 0,03164, 2500 = 0,02944, 5000 = 0,02694 (USD); RoHS: Yes; Mount: Surface Mount; Case/Package: 0402; Weight: 0.000212oz; Case Code (Metric): 1005; Case Code (Imperial): 0402; Contact Plating: Tin; Min Operating Temperature: -55°C; Max Operating Temperature: 85°C; Package Quantity: 10000; Voltage Rating: 6.3V; Packaging: Tape and Reel; Dielectric: X5R; Termination: SMD/SMT; Voltage: 6.3V; Voltage Rating (DC): 6.3V; Length: 1mm; Height: 0.5mm; Width: 0.02inch; Thickness: 0.022inch; Depth: 0.5mm; REACH SVHC: No SVHC; Lead Free: Lead Free; ComponentLink1URL: https://datasheet.ciiva.com/6270/product-6270483.pdf?src-supplier=Digi-Key; ComponentLink1Description: https://datasheet.ciiva.com/6270/product-6270483.pdf?src-supplier=Digi-Key; ComponentLink2URL: https://datasheet.ciiva.com/6268/partnumbering-e-01-6268378.pdf?src-supplier=Digi-Key; ComponentLink2Description: https://datasheet.ciiva.com/6268/partnumbering-e-01-6268378.pdf?src-supplier=Digi-Key; ComponentLink3URL: https://datasheet.ciiva.com/46418/1769893-46418044.pdf?src-supplier=Element14; ComponentLink3Description: https://datasheet.ciiva.com/46418/1769893-46418044.pdf?src-supplier=Element14; ComponentLink4URL: https://datasheet.ciiva.com/46418/1769893-46418045.pdf?src-supplier=Element14; ComponentLink4Description: https://datasheet.ciiva.com/46418/1769893-46418045.pdf?src-supplier=Element14; ComponentLink5URL: https://datasheet.ciiva.com/6268/partnumbering-e-01-6268382.pdf?src-supplier=Digi-Key; ComponentLink5Description: https://datasheet.ciiva.com/6268/partnumbering-e-01-6268382.pdf?src-supplier=Digi-Key; Supplier Part Number 1: 490-5915-1-ND
footprint cap_0402
footprint cap_0402_NOSILK
pins: 1, 2

## GRM155R71E103KA01D
designator C?, comment 10nF/25V
CAP CER nF 10 25V X7R 0402; Manufacturer: Murata; Manufacturer Part Number: GRM155R71E103KA01D; Material: Ceramic; Capacitance: 10nF; Tolerance: 10%; Insulation Resistance: 10GR; Supplier 1: Digi-Key; Stock 1: 8053055; Pricing 1: 1 = 0,10000, 10 = 0,02100, 100 = 0,00930, 500 = 0,00666, 1000 = 0,00523, 2500 = 0,00476, 5000 = 0,00438 (USD); RoHS: Yes; Mount: Surface Mount; Case/Package: 0402; Number of Pins: 2; Case Code (Imperial): 0402; Case Code (Metric): 1005; Dielectric Material: Ceramic; Min Operating Temperature: -55°C; Max Operating Temperature: 125°C; Packaging: Tape and Reel; Voltage Rating: 25V; Voltage Rating (DC): 25V; Package Quantity: 1; Dielectric: X7R; Termination: SMD/SMT; Voltage: 25V; Length: 1mm; Height: 0.5mm; Width: 0.5mm; Thickness: 0.022inch; Depth: 0.5mm; Radiation Hardening: No; REACH SVHC: No SVHC; Lead Free: Lead Free; ComponentLink1URL: https://datasheet.ciiva.com/11786/0900766b807a1cab-11786320.pdf?src-supplier=RSComponents; ComponentLink1Description: https://datasheet.ciiva.com/11786/0900766b807a1cab-11786320.pdf?src-supplier=RSComponents; ComponentLink2URL: https://datasheet.ciiva.com/18184/getdatasheetpartid-161489-18184689.pdf?src-supplier=Verical; ComponentLink2Description: https://datasheet.ciiva.com/18184/getdatasheetpartid-161489-18184689.pdf?src-supplier=Verical; ComponentLink3URL: https://datasheet.ciiva.com/28534/1699889-28534148.pdf?src-supplier=Element14; ComponentLink3Description: https://datasheet.ciiva.com/28534/1699889-28534148.pdf?src-supplier=Element14; ComponentLink4URL: https://datasheet.ciiva.com/3777/3813grm155r71e103ka0123-3777115.pdf?src-supplier=Arrow; ComponentLink4Description: https://datasheet.ciiva.com/3777/3813grm155r71e103ka0123-3777115.pdf?src-supplier=Arrow; ComponentLink5URL: https://datasheet.ciiva.com/129/partnumbering-e-01-129741.pdf?src-supplier=Digi-Key; ComponentLink5Description: https://datasheet.ciiva.com/129/partnumbering-e-01-129741.pdf?src-supplier=Digi-Key; ComponentLink6URL: https://datasheet.ciiva.com/129/partnumbering-e-01-129742.pdf?src-supplier=Digi-Key; ComponentLink6Description: https://datasheet.ciiva.com/129/partnumbering-e-01-129742.pdf?src-supplier=Digi-Key; ComponentLink7URL: https://datasheet.ciiva.com/29199/454154-da-01-en-vs-kondensator-0402-29199817.pdf?src-supplier=Conrad; ComponentLink7Description: https://datasheet.ciiva.com/29199/454154-da-01-en-vs-kondensator-0402-29199817.pdf?src-supplier=Conrad; ComponentLink8URL: https://datasheet.ciiva.com/7937/1747448-7937621.pdf?src-supplier=Element14; ComponentLink8Description: https://datasheet.ciiva.com/7937/1747448-7937621.pdf?src-supplier=Element14; ComponentLink9URL: https://datasheet.ciiva.com/16199/product-16199034.pdf?src-supplier=Future+Electronics; ComponentLink9Description: https://datasheet.ciiva.com/16199/product-16199034.pdf?src-supplier=Future+Electronics; Supplier Part Number 1: 490-1312-6-ND
pins: 1, 2